# EAGLE library part HCLP- (library HLCP-C100)
HLCP-X100 and HLMP-2XXX series LED Light Bars Description The HLCP-X100 and HLMP-2XXX series light bars are rectangular light sources designed for a variety of applications where a large bright source of light is required. These light bars are configured in singlein- line and dual-in-line packages that contain either single or segmented light emitting areas. The AlGaAs Red HLCP-X100 series LEDs use double heterojunction AlGaAs on a GaAs substrate. The HER HLMP-2300/2600 and Yellow HLMP-2400/2700 series LEDs have their p-n junctions diffused into a GaAsP epitaxial layer on a GaP substrate. The Green HLMP- 2500/2800 series LEDs use a liquid phase GaP epitaxial layer on a GaP substrate. The bicolor HLMP- 2900 series use a combination of HER/Yellow or HER/ Green LEDs.
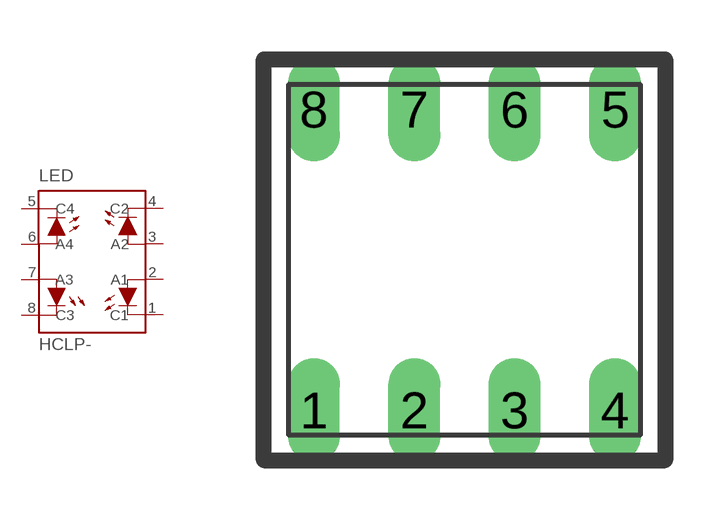
[diagram p0: symbol with the pads of SOCKET-08; footprint SOCKET-08]

Designator prefix LED

## HCLP-HLMP-2855  [SOCKET-08]
1  C1  pas
2  A1  pas
3  A2  pas
4  C2  pas
5  C4  pas
6  A4  pas
7  A3  pas
8  C3  pas

## Footprint SOCKET-08 (pad centres in mm)
Dual In Line Socket
drill 0.813 long: 1 -3.81,-3.81; 2 -1.27,-3.81; 3 1.27,-3.81; 4 3.81,-3.81; 5 3.81,3.81; 6 1.27,3.81; 7 -1.27,3.81; 8 -3.81,3.81